# Altium integrated library UJ20-C-H-G-SMT-P16-TR-67.IntLib: 1 symbol
Pins are listed as number, name and electrical type; pins without a type are passive.

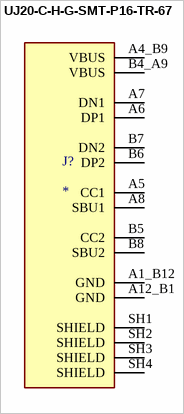
[diagram p0: symbol UJ20-C-H-G-SMT-P16-TR-67]

## UJ20-C-H-G-SMT-P16-TR-67
designator J?
MP: UJ20-C-H-G-SMT-P16-TR-67; Package: None; Price: None; Value: *; Availability: Unavailable
footprint SAMESKY_UJ20-C-H-G-SMT-P16-TR-67
pins: A1_B12 GND, A4_B9 VBUS, A5 CC1, A6 DP1, A7 DN1, A8 SBU1, A12_B1 GND, B4_A9 VBUS, B5 CC2, B6 DP2, B7 DN2, B8 SBU2, SH1 SHIELD, SH2 SHIELD, SH3 SHIELD, SH4 SHIELD